# Altium footprint library CPS.PcbLib: 5 footprints
Each footprint in its own frame and in the unit in brackets; x right, y up, seen from the top. Pads: shape width x height; smd on the part's side, far side on the other; paste and mask are expansions set on the pad; w line width, h text height; cw(c..) or ccw(c..) is an arc to the next point about the centre after c.
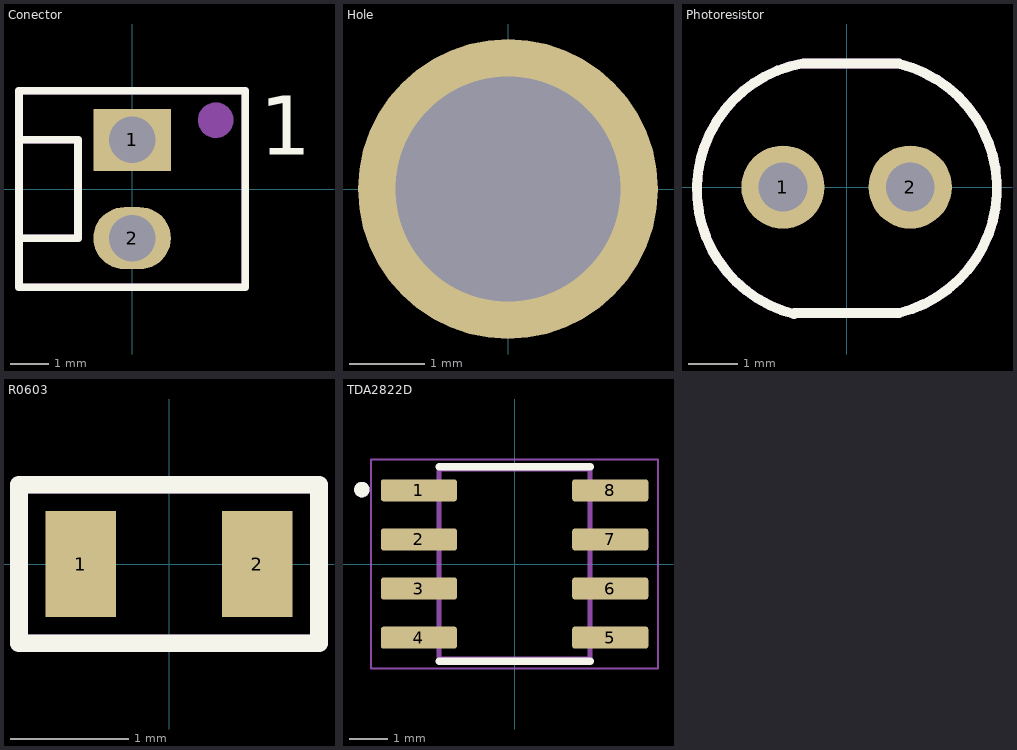
[diagram p0: the footprints below, top view; thin cyan lines are the x and y axes]

## Conector [mm]
pads (2):
  rect 2x1.6 hole 1.2: 1(0,1.27)
  oval 2x1.6 hole 1.2: 2(0,-1.27)
Top Overlay:
  lines w0.2: -2.921,-1.27 -1.397,-1.27 -1.397,1.27 -2.921,1.27 ; -2.921,-2.54 -2.921,2.54 2.921,2.54 2.921,-2.54 -2.921,-2.54
  text "1" at 3.302,0.889 h1.52
Mechanical 29:
  circle w0.508: c2.159,1.778 r0.203
  lines w0.2: -2.921,-1.27 -1.397,-1.27 -1.397,1.27 -2.921,1.27 ; -2.921,-2.54 -2.921,2.54 2.921,2.54 2.921,-2.54 -2.921,-2.54
  text "'.Designator'" at -2.791,-0.635 h1.52
3D body "022292021.stp": height 11.71, standoff -3.55, extent -2.9,-2.54 2.9,2.54

## Hole [mm]
pads (1):
  round 4 hole 3: ""(0,0)

## Photoresistor [mm]
pads (2):
  round 1.7 hole 1: 1(-1.3,0) 2(1.3,0)
Top Overlay:
  lines w0.2: -1.072,-2.593 cw(c-0.436,-0.051) -0.884,2.531 ; -1.072,-2.575 -1.069,-2.575 -1.067,-2.573 1.072,-2.573 ; -0.884,2.525 1.071,2.525 ; 1.072,-2.571 ccw(c0.453,-0.025) 1.071,2.52
Mechanical 29:
  lines w0.2: -1.072,-2.593 cw(c-0.436,-0.051) -0.884,2.531 ; -1.072,-2.575 -1.069,-2.575 -1.067,-2.573 1.072,-2.573 ; -0.884,2.525 1.071,2.525 ; 1.072,-2.571 ccw(c0.453,-0.025) 1.071,2.52
  text "'.Designator'" at -1.965,-0.292 h0.7
3D body "foto resistenza.stp": height 2, standoff -9, extent -3.025,-2.573 2.975,2.528

## R0603 [mm] "Guidelines for Footprint Design - Walsin Technology Corporation"
pads (2):
  rect 0.6x0.9 smd: 1(-0.75,0) 2(0.75,0)
Top Overlay:
  lines w0.15: -1.275,-0.675 1.275,-0.675 1.275,0.675 -1.275,0.675 -1.275,-0.675
Mechanical 29:
  lines w0.15: -1.275,-0.675 -1.275,0.675 1.275,0.675 1.275,-0.675 -1.275,-0.675
  text ".Designator" at -1,-0.425 h0.8
3D body "R0603_Package.STEP": height 0.44, standoff -0.02, extent -0.8,-0.4 0.8,0.4

## TDA2822D [mm]
pads (8):
  rrect25% 1.97x0.57 smd: 1(-2.475,1.905) 2(-2.475,0.635) 3(-2.475,-0.635) 4(-2.475,-1.905) 5(2.475,-1.905) 6(2.475,-0.635) 7(2.475,0.635) 8(2.475,1.905)
Top Overlay:
  circle w0.2: c-3.95,1.925 r0.1
  lines w0.2: -1.95,-2.515 1.95,-2.515 ; -1.95,2.515 1.95,2.515
Mechanical 13:
  circle w0.2: c-3.95,1.925 r0.1
  lines w0.127: -1.95,-2.45 1.95,-2.45 1.95,2.45 -1.95,2.45 -1.95,-2.45
  text "'.Designator'" at 0.292,-2.365 h0.7
Mechanical 15:
  lines w0.05: -3.71,-2.7 3.71,-2.7 3.71,2.7 -3.71,2.7 -3.71,-2.7
3D body "TDA2822D.STEP": height 1.75, standoff 0, extent -3,-2.45 3,2.45
3D body: height 1.75, standoff 1.48, extent -1.252,1.35 -0.754,1.85